# EAGLE library part DT-1704 (library mynixies)
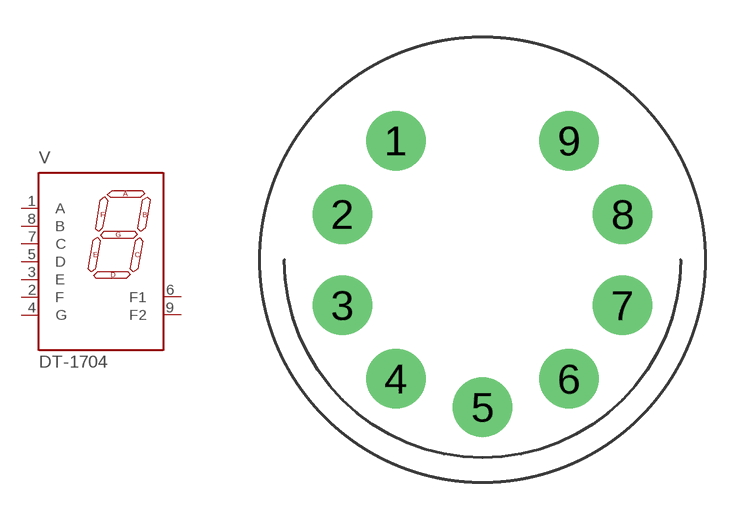
[diagram p30: symbol with the pads of DT-1704; footprint DT-1704]

Designator prefix V

## DT-1704  [DT-1704]
1  A  pas
2  F  pas
3  E  pas
4  G  pas
5  D  pas
6  F1  pas
7  C  pas
8  B  pas
9  F2  pas

## Footprint DT-1704 (pad centres in mm)
drill 1.6: 1 -3.497,4.814; 2 -5.659,1.839; 3 -5.659,-1.839; 4 -3.497,-4.814; 5 0,-5.95; 6 3.497,-4.814; 7 5.659,-1.839; 8 5.659,1.839; 9 3.497,4.814